# EAGLE library part ATTINY10 (library ic-mcu)
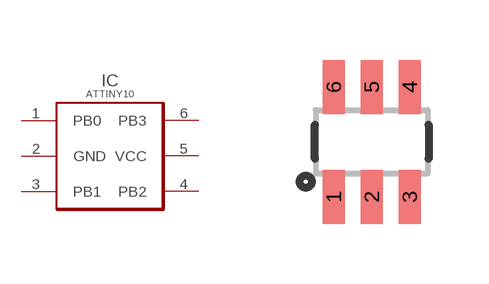
[diagram p3: symbol with the pads of SOT23-6; footprint SOT23-6]

Designator prefix IC

## ATTINY10  [SOT23-6]
1  PB0
2  GND  pas
3  PB1
4  PB2
5  VCC  pas
6  PB3

## Footprint SOT23-6 (pad centres in mm)
smd 0.55 x 1.35: 1 -0.95,-1.375; 2 0,-1.375; 3 0.95,-1.375; 4 0.95,1.375; 5 0,1.375; 6 -0.95,1.375